# Altium schematic symbol library EM4095.SchLib: 1 symbol
Pins are listed as number, name and electrical type; pins without a type are passive.

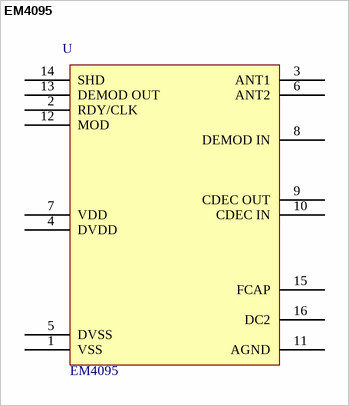
[diagram p0: symbol EM4095]

## EM4095
designator U  value EM4095  (hidden comment: *)
Manufacturer: EM MICROELECTRONIC; Manufacturer Code: EM4095HMSO16A; Unit Price: 2 €; Package: SO16
footprint SO16
pins: 1 VSS, 2 RDY/CLK, 3 ANT1, 4 DVDD, 5 DVSS, 6 ANT2, 7 VDD, 8 DEMOD IN, 9 CDEC OUT, 10 CDEC IN, 11 AGND, 12 MOD, 13 DEMOD OUT, 14 SHD, 15 FCAP, 16 DC2